# Altium integrated library UPM2A100MED.IntLib: 1 symbol
Pins are listed as number, name and electrical type; pins without a type are passive.

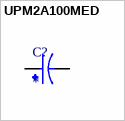
[diagram p0: symbol UPM2A100MED]

## UPM2A100MED
designator C?
Cap Aluminum Lytic 10uF 100V 20% (6.3 X 11mm) Radial 2.5mm 52mA 2000h 105Â°C Bulk; MP: UPM2A100MED; MF: Nichicon; Package: Radial Nichicon; Availability: Good; Price: None; Purchase-URL: https://pricing.snapeda.com/search/part/UPM2A100MED/?ref=eda; SnapEDA_Link: https://www.snapeda.com/parts/UPM2A100MED/Nichicon/view-part/2304499/?ref=snap; Check_prices: https://www.snapeda.com/parts/UPM2A100MED/Nichicon/view-part/2304499/?ref=eda; Value: *
footprint CAPPRD250W50D630H1250
pins: N, P